# Altium schematic symbol library NSR1020MW2T1G.SchLib: 2 symbols
Pins are listed as number, name and electrical type; pins without a type are passive.

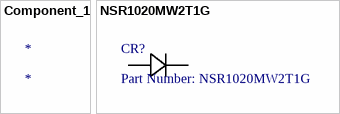
[diagram p0: symbols Component_1 to NSR1020MW2T1G]

## Component_1
designator *

## NSR1020MW2T1G
designator CR?, comment Part Number: NSR1020MW2T1G
No Description Available; Vendor: ON Semiconductor; Built_By: EMA_Anthony; Type: DEV; Copyright: Copyright (C) 2016 Accelerated Designs. All rights reserved; Manufacturer_Part_Number: NSR1020MW2T1G; RefDes: RefDes; Value: Value
footprint DIODE_SOD323_1P8
pins: 1, 2